# Altium footprint library 接线端子封装库.PcbLib: 73 footprints (part 3 of 5)
Each footprint in its own frame and in the unit in brackets; x right, y up, seen from the top. Pads: shape width x height; smd on the part's side, far side on the other; paste and mask are expansions set on the pad; w line width, h text height; cw(c..) or ccw(c..) is an arc to the next point about the centre after c.
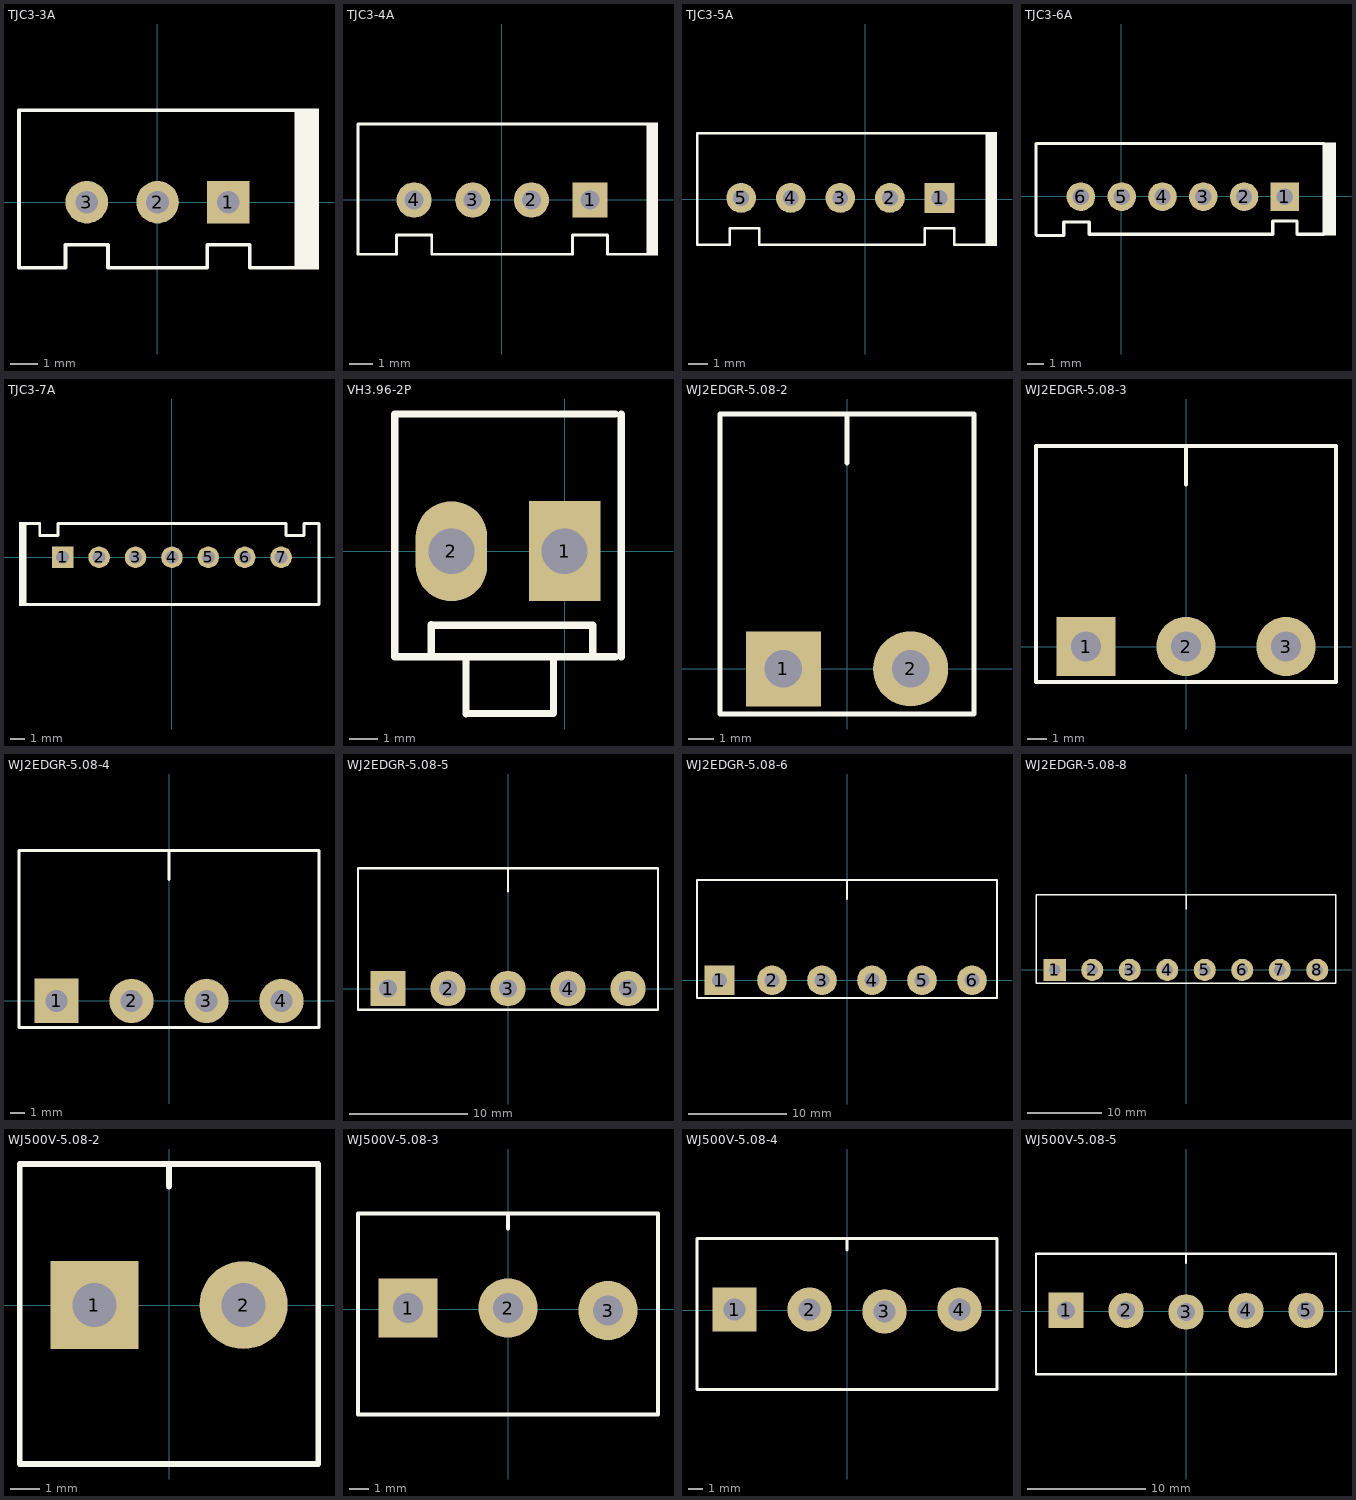
[diagram p2: the footprints below, top view; thin cyan lines are the x and y axes]

## TJC3-3A [mil]
pads (3):
  rect 60x60 hole 32: 1(100.17,0)
  round 60 hole 32: 2(0.17,0) 3(-99.83,0)
Top Overlay:
  rectangle: 195.84,-95.1 228.17,132.4
  lines w5: -195.5,-92.52 -195.5,129.92 195.84,129.92 195.84,-92.52 130.17,-92.52 130.17,-60 70.17,-60 70.17,-92.52 -69.83,-92.52 -69.83,-60 -129.83,-60 -129.83,-92.52 -195.5,-92.52

## TJC3-4A [mil]
pads (4):
  rect 60x60 hole 32: 1(150.28,0)
  round 60 hole 32: 2(50.27,0) 3(-49.73,0) 4(-149.72,0)
Top Overlay:
  rectangle: 246,-95 266,132.5
  lines w5: 245.94,-92.52 180.28,-92.52 180.28,-60 120.28,-60 120.28,-92.52 -119.72,-92.52 -119.72,-60 -179.72,-60 -179.72,-92.52 -245.4,-92.52 -245.4,129.92 245.94,129.92

## TJC3-5A [mil]
pads (5):
  rect 60x60 hole 32: 1(149.5,2.5)
  round 60 hole 32: 2(49.5,2.5) 3(-50.5,2.5) 4(-150.5,2.5) 5(-250.5,2.5)
Top Overlay:
  rectangle: 245.17,-94 265.5,134.9
  lines w5: -214,-91.5 -214,-58.98 -273.5,-58.98 -273.5,-91.5 -339.17,-91.5 -339.17,132.09 -339.5,132.42 -246.17,132.42 245.17,132.42 245.17,-90.02 ; -213,-91.5 -120.5,-91.5 119.5,-91.5 ; 119.5,-90.02 119.5,-58.98 179.5,-58.98 179.5,-91.5 245.17,-91.5

## TJC3-6A [mil]
pads (6):
  rect 70x70 hole 40: 1(400.67,-0.92)
  round 70 hole 40: 2(300.67,-0.92) 3(200.67,-0.92) 4(100.67,-0.92) 5(0.67,-0.92) 6(-99.33,-0.92)
Top Overlay:
  rectangle: 496.34,-96 526,131.5
  lines w8: -209.33,-94.92 -209.33,128.67 ; -209.33,129 5,129 496.34,129 496.34,-93.44 430.67,-93.44 430.67,-60.92 370.67,-60.92 370.67,-93.44 ; -208,-96 -141,-96 -141,-63.48 ; -140,-63 -80,-63 ; -79,-64 -79,-93 367.59,-93

## TJC3-7A [mm]
pads (7):
  rect 1.5x1.5 hole 0.9: 1(-7.62,0)
  round 1.5 hole 0.9: 2(-5.08,0) 3(-2.54,0) 4(0,0) 5(2.54,0) 6(5.08,0) 7(7.62,0)
Top Overlay:
  rectangle: -10.668,-3.404 -10.262,2.464
  lines w0.203: -10.262,-3.302 -10.262,2.362 -9.22,2.362 -9.22,1.524 -7.95,1.524 -7.95,2.362 7.95,2.362 7.95,1.524 9.22,1.524 9.22,2.362 10.262,2.362 10.262,-3.302 -10.262,-3.302

## VH3.96-2P [mm]
pads (2):
  rect 2.5x3.5 hole 1.6: 1(0,0)
  oval 2.5x3.5 hole 1.6: 2(-3.96,0)
Top Overlay:
  lines w0.254: -4.67,-3.669 -4.67,-2.575 ; -4.654,-2.591 0.989,-2.591 0.989,-3.69 ; -3.451,-5.701 -3.451,-3.701 ; -3.435,-5.685 -0.387,-5.685 -0.387,-3.685 ; 1.785,-3.7 -5.94,-3.7 -5.94,4.8 1.785,4.8 ; 1.98,-3.7 1.98,4.8
3D body: height 15.37, standoff -2.92, extent -5.969,-4.293 1.803,5.715

## WJ2EDGR-5.08-2 [mm]
pads (2):
  rect 3x3 hole 1.5: 1(-2.54,0)
  round 3 hole 1.5: 2(2.54,0)
Top Overlay:
  lines w0.2: 0,8.23 0,10.185 ; -5.08,-1.803 5.08,-1.803 5.08,10.185 -5.08,10.185 -5.08,-1.803
3D body: height 8.6, standoff -3.5, extent -5.08,-1.963 5.08,10.04

## WJ2EDGR-5.08-3 [mm]
pads (3):
  rect 3x3 hole 1.5: 1(-5.08,0)
  round 3 hole 1.5: 2(0,0) 3(5.08,0)
Top Overlay:
  lines w0.2: 0,8.23 0,10.185 ; -7.62,-1.803 7.62,-1.803 7.62,10.185 -7.62,10.185 -7.62,-1.803
3D body: height 8.6, standoff -3.5, extent -7.62,-2.096 7.62,9.906

## WJ2EDGR-5.08-4 [mm]
pads (4):
  rect 3x3 hole 1.5: 1(-7.62,0)
  round 3 hole 1.5: 2(-2.54,0) 3(2.54,0) 4(7.62,0)
Top Overlay:
  lines w0.2: 0,8.23 0,10.185 ; -10.16,-1.803 -10.16,10.185 10.16,10.185 10.16,-1.803 -10.16,-1.803
3D body: height 8.6, standoff -3.5, extent -10,-2.032 10,9.968

## WJ2EDGR-5.08-5 [mm]
pads (5):
  rect 3x3 hole 1.5: 1(-10.16,0)
  round 3 hole 1.5: 2(-5.08,0) 3(0,0) 4(5.08,0) 5(10.16,0)
Top Overlay:
  lines w0.2: 0,8.23 0,10.185 ; -12.7,-1.803 12.7,-1.803 12.7,10.185 -12.7,10.185 -12.7,-1.803
3D body: height 8.6, standoff -3.5, extent -12.5,-2.032 12.5,9.968

## WJ2EDGR-5.08-6 [mm]
pads (6):
  rect 3x3 hole 1.5: 1(-12.954,0)
  round 3 hole 1.5: 2(-7.62,0) 3(-2.54,0) 4(2.54,0) 5(7.62,0) 6(12.7,0)
Top Overlay:
  lines w0.2: 0,8.23 0,10.185 ; -15.24,-1.803 -15.24,10.185 15.24,10.185 15.24,-1.803 -15.24,-1.803
3D body: height 8.6, standoff -3.5, extent -15,-2.032 15,9.968

## WJ2EDGR-5.08-8 [mm]
pads (8):
  rect 3x3 hole 1.5: 1(-17.78,0)
  round 3 hole 1.5: 2(-12.7,0) 3(-7.62,0) 4(-2.54,0) 5(2.54,0) 6(7.62,0) 7(12.7,0) 8(17.78,0)
Top Overlay:
  lines w0.2: 0,8.204 0,10.16 ; -20.32,-1.803 20.32,-1.803 20.32,10.185 -20.32,10.185 -20.32,-1.803
3D body: height 8.6, standoff -3.5, extent -21.32,-2.032 21.32,9.97

## WJ500V-5.08-2 [mm]
pads (2):
  rect 3x3 hole 1.5: 1(-2.54,0)
  round 3 hole 1.5: 2(2.54,0)
Top Overlay:
  lines w0.2: 0,4.039 0,4.801 ; -5.08,-5.41 5.08,-5.41 5.08,4.801 -5.08,4.801 -5.08,-5.41
3D body: height 15, standoff -3.5, extent -5.111,-4.826 5.619,4.674

## WJ500V-5.08-3 [mm]
pads (3):
  rect 3x3 hole 1.5: 1(-5.08,0.064)
  round 3 hole 1.5: 2(0,0.064) 3(5.08,-0.064)
Top Overlay:
  lines w0.2: 0,4.102 0,4.864 ; -7.62,-5.347 7.62,-5.347 7.62,4.864 -7.62,4.864 -7.62,-5.347
3D body: height 15.5, standoff -3, extent -7.651,-4.572 8.159,4.928

## WJ500V-5.08-4 [mm]
pads (4):
  rect 3x3 hole 1.5: 1(-7.62,0.064)
  round 3 hole 1.5: 2(-2.54,0.064) 3(2.54,-0.064) 4(7.62,0.064)
Top Overlay:
  lines w0.2: 0,4.102 0,4.864 ; -10.16,-5.347 10.16,-5.347 10.16,4.864 -10.16,4.864 -10.16,-5.347
3D body: height 15, standoff -3.5, extent -10.16,-4.75 10.41,4.75

## WJ500V-5.08-5 [mm]
pads (5):
  rect 3x3 hole 1.5: 1(-10.16,0.064)
  round 3 hole 1.5: 2(-5.08,0.064) 3(0,-0.064) 4(5.08,0.064) 5(10.16,0.064)
Top Overlay:
  lines w0.2: 0,4.102 0,4.864 ; -12.7,-5.347 12.7,-5.347 12.7,4.864 -12.7,4.864 -12.7,-5.347
3D body: height 10, standoff -3.5, extent -12.7,-4.05 13.27,4.05